# EAGLE library part LOGGER (library MouseLib)
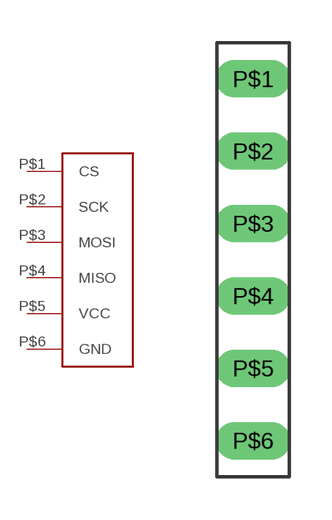
[diagram p4: symbol with the pads of 6PINS; footprint 6PINS]

Designator prefix -

## LOGGER  [6PINS]
P$1  CS
P$2  SCK
P$3  MOSI
P$4  MISO
P$5  VCC  pwr
P$6  GND  pwr

## Footprint 6PINS (pad centres in mm)
drill 0.8 pad 1.143 long: P$1 -2.54,10.16; P$2 -2.54,7.62; P$3 -2.54,5.08; P$4 -2.54,2.54; P$5 -2.54,0; P$6 -2.54,-2.54